# EAGLE library part NRF24 (library RadioShield)
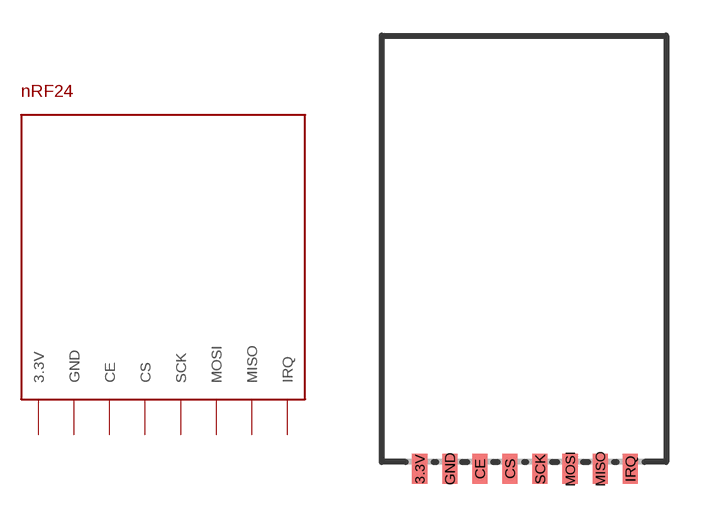
[diagram p4: symbol with the pads of NRF24; footprint NRF24]

Designator prefix -

## NRF24  [NRF24]
3.3V  3.3V
CE  CE
CS  CS
GND  GND
IRQ  IRQ
MISO  MISO
MOSI  MOSI
SCK  SCK

## Footprint NRF24 (pad centres in mm)
smd 0.635 x 1.27: 3.3V -4.4,-9.3; CE -1.86,-9.3; CS -0.59,-9.3; GND -3.13,-9.3; IRQ 4.49,-9.3; MISO 3.22,-9.3; MOSI 1.95,-9.3; SCK 0.68,-9.3